# Altium integrated library Linx Technologies Interface Module.IntLib: 1 symbol
Pins are listed as number, name and electrical type; pins without a type are passive.

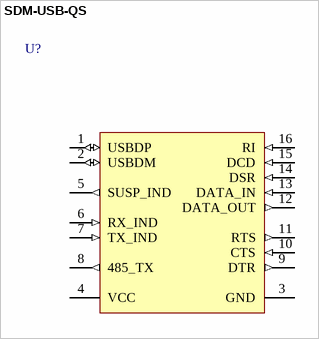
[diagram p0: symbol SDM-USB-QS]

## SDM-USB-QS
designator U?
USB Module, USB-to-Asynchronous Serial Data Converter, SMD; PCB_Layout: Pads complies with manufacturer's recommendation.; DatasheetVersion: 15/08/2008; PackageVersion: 15/08/2008; PackageReference: LMD0.63-16; PackageDescription: RF Module, ES Series, SM, 24-Lead, 20.63 x 16 x 3.18 mm Body; ComponentLink1Description: Manufacturer URL; ComponentLink1URL: http://www.linxtechnologies.com/; ComponentLink2Description: Datasheet; ComponentLink2URL: http://www.linxtechnologies.com/Documents/SDM-USB-QS_Data_Guide.pdf
footprint LMD0.63-16 (LINX MODULE DIP, 0.63", 16 PINS)
footprint LMD0.63-16 (SMD 16-Lead, Body 20.63x16x3.18mm, Pitch 2.54mm)
pins: 1 USBDP (io), 2 USBDM (io), 3 GND (power), 4 VCC (power), 5 SUSP_IND (out), 6 RX_IND (in), 7 TX_IND (in), 8 485_TX (out), 9 DTR (out), 10 CTS (in), 11 RTS (out), 12 DATA_OUT (out), 13 DATA_IN (in), 14 DSR (in), 15 DCD (in), 16 RI (in)